# Altium footprint library STM32最小系统板.PcbLib: 1 footprints
Each footprint in its own frame and in the unit in brackets; x right, y up, seen from the top. Pads: shape width x height; smd on the part's side, far side on the other; paste and mask are expansions set on the pad; w line width, h text height; cw(c..) or ccw(c..) is an arc to the next point about the centre after c.
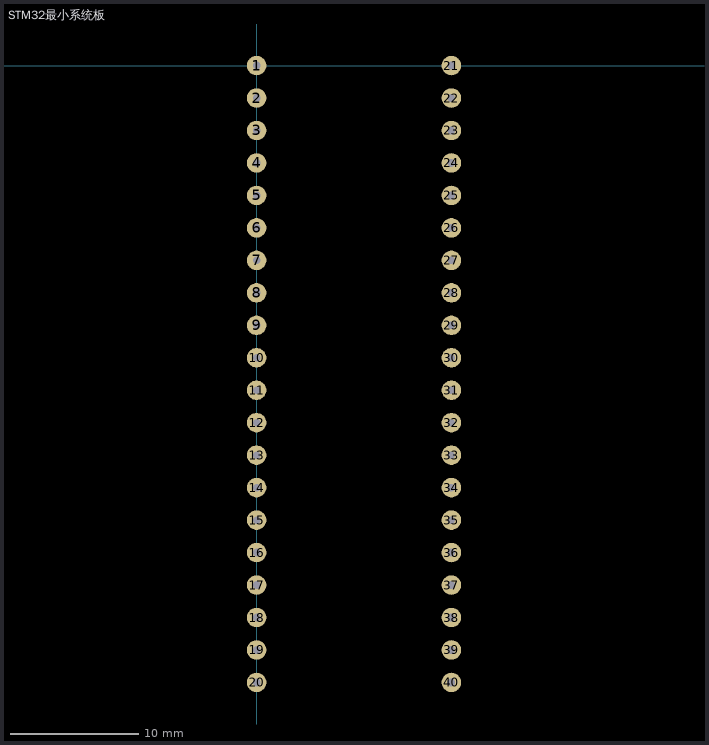
[diagram p0: the footprint, top view; thin cyan lines are the x and y axes]

## STM32最小系统板 [mil]
pads (40):
  round 60 hole 23.62: 1(0,0) 2(0,-100) 3(0,-200) 4(0,-300) 5(0,-400) 6(0,-500) 7(0,-600) 8(0,-700) 9(0,-800) 10(0,-900) 11(0,-1000) 12(0,-1100) 13(0,-1200) 14(0,-1300) 15(0,-1400) 16(0,-1500) 17(0,-1600) 18(0,-1700) 19(0,-1800) 20(0,-1900) 21(600,0) 22(600,-100) 23(600,-200) 24(600,-300) 25(600,-400) 26(600,-500) 27(600,-600) 28(600,-700) 29(600,-800) 30(600,-900) 31(600,-1000) 32(600,-1100) 33(600,-1200) 34(600,-1300) 35(600,-1400) 36(600,-1500) 37(600,-1600) 38(600,-1700) 39(600,-1800) 40(600,-1900)